# Altium schematic symbol library 10pin-molex.SchLib: 1 symbol
Pins are listed as number, name and electrical type; pins without a type are passive.

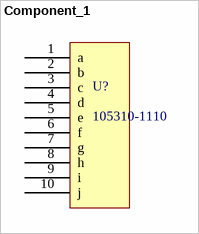
[diagram p0: symbol Component_1]

## Component_1
designator U?, comment 105310-1110
Nano-Fit Vertical Header, Through Hole, 2.50mm Pitch, Dual Row, 10 Circuits, with Kinked Pins, Tin (Sn) Plating, Black
footprint 10pin-molex (Nano-Fit Vertical Header, Through Hole, 2.50mm Pitch, Dual Row, 10 Circuits, with Kinked Pins, Tin (Sn) Plating, Black)
pins: 1 a, 2 b, 3 c, 4 d, 5 e, 6 f, 7 g, 8 h, 9 i, 10 j